# EAGLE library part 8_CHANNEL_LEVEL_SHIFTER (library blizzard_common_0)
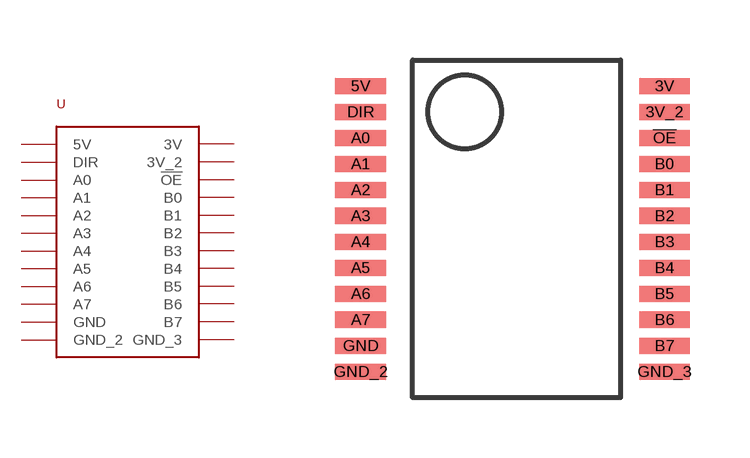
[diagram p1: symbol with the pads of 8_LEVEL_SHIFTER_PKG; footprint 8_LEVEL_SHIFTER_PKG]

Designator prefix U

## 8_CHANNEL_LEVEL_SHIFTER  [8_LEVEL_SHIFTER_PKG]
3V  3V
3V_2  3V_2
5V  5V
!OE  !OE
A0  A0
A1  A1
A2  A2
A3  A3
A4  A4
A5  A5
A6  A6
A7  A7
B0  B0
B1  B1
B2  B2
B3  B3
B4  B4
B5  B5
B6  B6
B7  B7
DIR  DIR
GND  GND
GND_2  GND_2
GND_3  GND_3

## Footprint 8_LEVEL_SHIFTER_PKG (pad centres in mm)
smd 1.27 x 0.4: 3V 7.6,0; 3V_2 7.6,-0.65; 5V 0,0; !OE 7.6,-1.3; A0 0,-1.3; A1 0,-1.95; A2 0,-2.6; A3 0,-3.25; A4 0,-3.9; A5 0,-4.55; A6 0,-5.2; A7 0,-5.85; B0 7.6,-1.95; B1 7.6,-2.6; B2 7.6,-3.25; B3 7.6,-3.9; B4 7.6,-4.55; B5 7.6,-5.2; B6 7.6,-5.85; B7 7.6,-6.5; DIR 0,-0.65; GND 0,-6.5; GND_2 0,-7.15; GND_3 7.6,-7.15